# Altium footprint library TDA2030.PcbLib: 1 footprints
Each footprint in its own frame and in the unit in brackets; x right, y up, seen from the top. Pads: shape width x height; smd on the part's side, far side on the other; paste and mask are expansions set on the pad; w line width, h text height; cw(c..) or ccw(c..) is an arc to the next point about the centre after c.
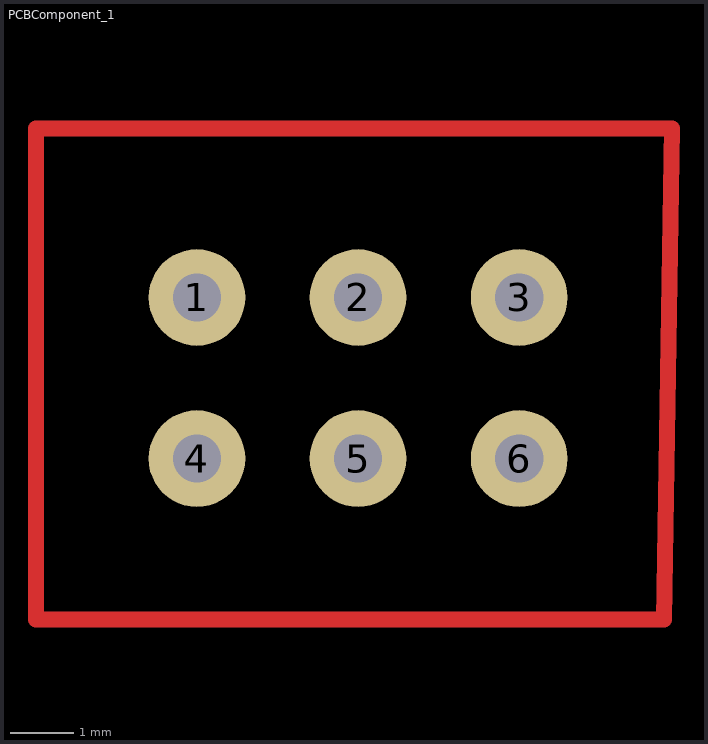
[diagram p0: the footprint, top view; thin cyan lines are the x and y axes]

## PCBComponent_1 [mil]
pads (6):
  round 60 hole 30: 1(-49000,-27300) 2(-48900,-27300) 3(-48800,-27300) 4(-49000,-27400) 5(-48900,-27400) 6(-48800,-27400)
Top Layer:
  lines w10: -49100,-27500 -48710,-27500 -48705,-27195 -49100,-27195 -49100,-27500